# Altium schematic symbol library Res_ROHM_SFR01MZPF20R0_20_Ohm.SchLib: 1 symbol
Pins are listed as number, name and electrical type; pins without a type are passive.

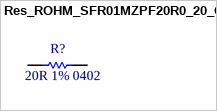
[diagram p0: symbol Res_ROHM_SFR01MZPF20R0_20_Ohm]

## Res_ROHM_SFR01MZPF20R0_20_Ohm
designator R?  Resistance: 20R 1% 0402  (hidden comment: Res_ROHM_SFR01MZPF20R0_20_Ohm)
20R 62.5mW 1% 0402 (1005 Metric)  SMD; Supplier 1: Mouser; Supplier Part Number 1: 755-SFR01MZPF20R0
footprint Res_ROHM_SFR01MZPF20R0_20_Ohm
pins: 1, 2